# Altium footprint library ECE453Spring16.PcbLib: 11 footprints
Each footprint in its own frame and in the unit in brackets; x right, y up, seen from the top. Pads: shape width x height; smd on the part's side, far side on the other; paste and mask are expansions set on the pad; w line width, h text height; cw(c..) or ccw(c..) is an arc to the next point about the centre after c.
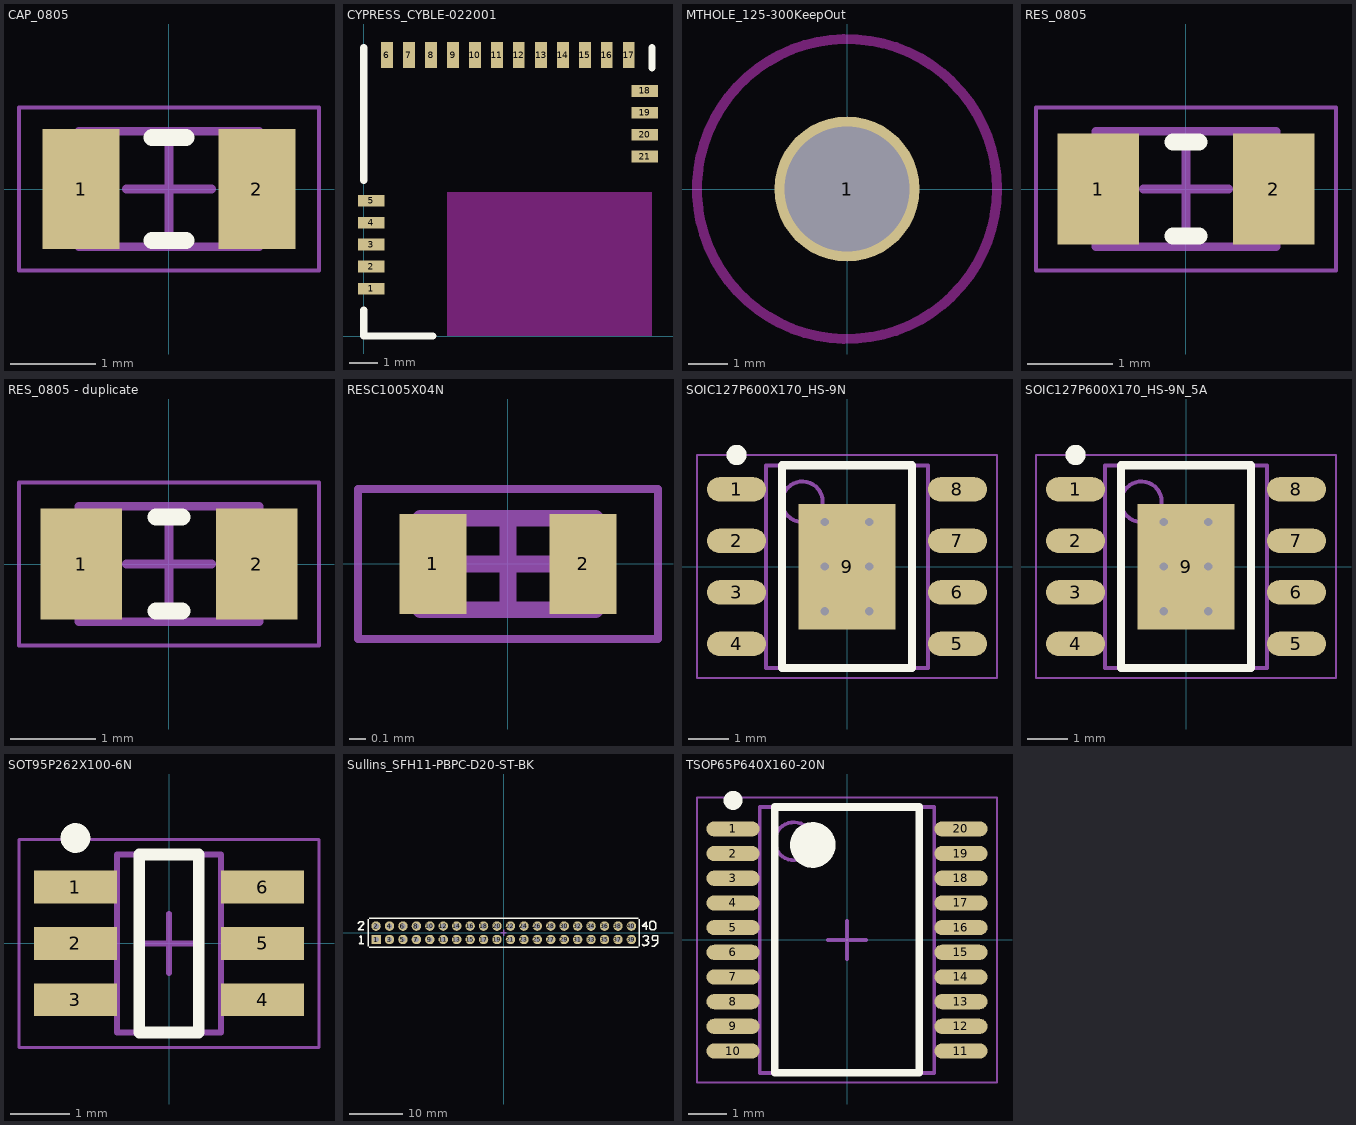
[diagram p0: the footprints below, top view; thin cyan lines are the x and y axes]

## CAP_0805 [mm] "Chip Capacitor, 2-Leads, Body 2.00x1.25mm, IPC Medium Density"
height 1
pads (2):
  rect 0.9x1.4 smd: 1(-1.025,0) 2(1.025,0)
Top Overlay:
  lines w0.2: -0.2,-0.6 0.2,-0.6 ; -0.2,0.6 0.2,0.6
Mechanical 13:
  lines w0.1: -1.05,-0.675 -1.05,0.675 1.05,0.675 1.05,-0.675 -1.05,-0.675
Mechanical 15:
  lines w0.05: -1.75,-0.95 -1.75,0.95 1.75,0.95 1.75,-0.95 -1.75,-0.95
  lines w0.1: -0.5,0 0.5,0 ; 0,-0.5 0,0.5
3D body: height 1, standoff 0, extent -0.7,-0.675 0.7,0.675
3D body: height 1, standoff 0, extent -1.05,-0.675 -0.7,0.675
3D body: height 1, standoff 0, extent 0.7,-0.675 1.05,0.675

## CYPRESS_CYBLE-022001 [mm] "EZ-BLE PRoC Module"
height 1.8
pads (21):
  rect 0.91x0.41 smd mask+0: 1(0.26,1.64) 2(0.26,2.41) 3(0.26,3.17) 4(0.26,3.93) 5(0.26,4.69) 18(9.75,8.5) 19(9.75,7.74) 20(9.75,6.98) 21(9.75,6.22)
  rect 0.41x0.91 smd mask+0: 6(0.81,9.74) 7(1.57,9.74) 8(2.34,9.74) 9(3.1,9.74) 10(3.86,9.74) 11(4.62,9.74) 12(5.38,9.74) 13(6.15,9.74) 14(6.91,9.74) 15(7.67,9.74) 16(8.43,9.74) 17(9.19,9.74)
Top Overlay:
  lines w0.254: 0,0.9 0,0 2.4,0 ; 0,5.4 0,10 ; 10,9.3 10,10
Keep-Out Layer:
  rectangle: 2.89,0 10,4.99

## MTHOLE_125-300KeepOut [mil] "0.125 in Hole w 0.300 Keep Out"
pads (1):
  round 145 / inner round 155 / far side round 145 hole 125: 1(0,0)
Keep-Out Layer:
  circle w10: c0,0 r150

## RES_0805 [mm] "Chip Resistor, 2-Leads, Body 2.00x1.25mm, IPC Medium Density"
height 0.65
pads (2):
  rect 0.95x1.3 smd: 1(-1.025,0) 2(1.025,0)
Top Overlay:
  lines w0.2: -0.15,-0.55 0.15,-0.55 ; -0.15,0.55 0.15,0.55
Mechanical 13:
  lines w0.1: -1.05,-0.675 1.05,-0.675 1.05,0.675 -1.05,0.675 -1.05,-0.675
Mechanical 15:
  lines w0.05: -1.75,-0.95 1.75,-0.95 1.75,0.95 -1.75,0.95 -1.75,-0.95
  lines w0.1: -0.5,0 0.5,0 ; 0,-0.5 0,0.5
3D body: height 0.65, standoff 0, extent 0.75,-0.675 1.05,0.675
3D body: height 0.65, standoff 0, extent -1.05,-0.675 -0.75,0.675
3D body: height 0.65, standoff 0, extent -0.75,-0.675 0.75,0.675

## RES_0805 - duplicate [mm] "Chip Resistor, 2-Leads, Body 2.00x1.25mm, IPC Medium Density"
height 0.65
pads (2):
  rect 0.95x1.3 smd: 1(-1.025,0) 2(1.025,0)
Top Overlay:
  lines w0.2: -0.15,-0.55 0.15,-0.55 ; -0.15,0.55 0.15,0.55
Mechanical 13:
  lines w0.1: -1.05,-0.675 -1.05,0.675 1.05,0.675 1.05,-0.675 -1.05,-0.675
Mechanical 15:
  lines w0.05: -1.75,-0.95 -1.75,0.95 1.75,0.95 1.75,-0.95 -1.75,-0.95
  lines w0.1: -0.5,0 0.5,0 ; 0,-0.5 0,0.5
3D body: height 0.65, standoff 0, extent -0.75,-0.675 0.75,0.675
3D body: height 0.65, standoff 0, extent -1.05,-0.675 -0.75,0.675
3D body: height 0.65, standoff 0, extent 0.75,-0.675 1.05,0.675

## RESC1005X04N [mm] "Chip Resistor, 2-Leads, Body 1.00x0.50mm, IPC Medium Density"
height 0.4
pads (2):
  rect 0.4x0.6 smd: 1(-0.45,0) 2(0.45,0)
Mechanical 13:
  lines w0.1: -0.525,-0.275 0.525,-0.275 0.525,0.275 -0.525,0.275 -0.525,-0.275
Mechanical 15:
  lines w0.05: -0.9,-0.45 0.9,-0.45 0.9,0.45 -0.9,0.45 -0.9,-0.45
  lines w0.1: -0.275,0 0.275,0 ; 0,-0.275 0,0.275
3D body: height 0.4, standoff 0, extent 0.275,-0.275 0.525,0.275
3D body: height 0.4, standoff 0, extent -0.525,-0.275 -0.275,0.275
3D body: height 0.4, standoff 0, extent -0.275,-0.275 0.275,0.275

## SOIC127P600X170_HS-9N [mm] "SOIC, 8-Leads, Body 4.90x3.90mm, Pitch 1.27mm, Thermal Pad 3.10x2.40mm, IPC Medium Density"
height 1.7
pads (9):
  oval 1.45x0.6 smd: 1(-2.725,1.905) 2(-2.725,0.635) 3(-2.725,-0.635) 4(-2.725,-1.905) 5(2.725,-1.905) 6(2.725,-0.635) 7(2.725,0.635) 8(2.725,1.905)
  rect 2.4x3.1 smd: 9(0,0)
via -0.55,1.1 diameter 0.5 hole 0.2
via 0.55,1.1 diameter 0.5 hole 0.2
via -0.55,0 diameter 0.5 hole 0.2
via 0.55,0 diameter 0.5 hole 0.2
via -0.55,-1.1 diameter 0.5 hole 0.2
via 0.55,-1.1 diameter 0.5 hole 0.2
Top Overlay:
  circle w0.25: c-2.725,2.755 r0.125
  lines w0.2: -1.6,-2.5 -1.6,2.5 1.6,2.5 1.6,-2.5 -1.6,-2.5
Mechanical 13:
  circle w0.1: c-1.1,1.6 r0.5
  lines w0.1: -2,-2.5 -2,2.5 2,2.5 2,-2.5 -2,-2.5
Mechanical 15:
  lines w0.05: -3.7,-2.75 -3.7,2.75 3.7,2.75 3.7,-2.75 -3.7,-2.75
  lines w0.1: -0.5,0 0.5,0 ; 0,-0.5 0,0.5
3D body: height 1.7, standoff 0.15, extent -2,-2.5 2,2.5

## SOIC127P600X170_HS-9N_5A [mm] "SOIC, 8-Leads, Body 4.90x3.90mm, Pitch 1.27mm, Thermal Pad 3.10x2.40mm, IPC Medium Density"
height 1.7
pads (9):
  oval 1.45x0.6 smd: 1(-2.725,1.905) 2(-2.725,0.635) 3(-2.725,-0.635) 4(-2.725,-1.905) 5(2.725,-1.905) 6(2.725,-0.635) 7(2.725,0.635) 8(2.725,1.905)
  rect 2.4x3.1 smd: 9(0,0)
via -0.55,1.1 diameter 0.5 hole 0.2
via 0.55,1.1 diameter 0.5 hole 0.2
via -0.55,0 diameter 0.5 hole 0.2
via 0.55,0 diameter 0.5 hole 0.2
via -0.55,-1.1 diameter 0.5 hole 0.2
via 0.55,-1.1 diameter 0.5 hole 0.2
Top Overlay:
  circle w0.25: c-2.725,2.755 r0.125
  lines w0.2: -1.6,-2.5 -1.6,2.5 1.6,2.5 1.6,-2.5 -1.6,-2.5
Mechanical 13:
  circle w0.1: c-1.1,1.6 r0.5
  lines w0.1: -2,-2.5 -2,2.5 2,2.5 2,-2.5 -2,-2.5
Mechanical 15:
  lines w0.05: -3.7,-2.75 -3.7,2.75 3.7,2.75 3.7,-2.75 -3.7,-2.75
  lines w0.1: -0.5,0 0.5,0 ; 0,-0.5 0,0.5
3D body: height 1.7, standoff 0.15, extent -2,-2.5 2,2.5

## SOT95P262X100-6N [mm] "SOT23, 6-Leads, Body 2.95x2.63mm, Pitch 0.95mm, IPC Medium Density"
height 1
pads (6):
  rect 1.4x0.55 smd: 1(-1.575,0.95) 2(-1.575,0) 3(-1.575,-0.95) 4(1.575,-0.95) 5(1.575,0) 6(1.575,0.95)
Top Overlay:
  circle w0.25: c-1.575,1.775 r0.125
  lines w0.2: -0.5,-1.5 0.5,-1.5 0.5,1.5 -0.5,1.5 -0.5,-1.5
Mechanical 13:
  lines w0.1: -0.875,-1.5 -0.875,1.5 0.875,1.5 0.875,-1.5 -0.875,-1.5
Mechanical 15:
  lines w0.05: -2.525,-1.75 -2.525,1.75 2.525,1.75 2.525,-1.75 -2.525,-1.75
  lines w0.1: -0.5,0 0.5,0 ; 0,-0.5 0,0.5
3D body: height 1, standoff 0.01, extent -0.875,-1.5 0.875,1.5

## Sullins_SFH11-PBPC-D20-ST-BK [mil] "CONN HEADER .100\" 40 POS"
height 335
pads (40):
  rect 70x70 hole 40: 1(-950,-50)
  round 70 hole 40: 2(-950,50) 3(-850,-50) 4(-850,50) 5(-750,-50) 6(-750,50) 7(-650,-50) 8(-650,50) 9(-550,-50) 10(-550,50) 11(-450,-50) 12(-450,50) 13(-350,-50) 14(-350,50) 15(-250,-50) 16(-250,50) 17(-150,-50) 18(-150,50) 19(-50,-50) 20(-50,50) 21(50,-50) 22(50,50) 23(150,-50) 24(150,50) 25(250,-50) 26(250,50) 27(350,-50) 28(350,50) 29(450,-50) 30(450,50) 31(550,-50) 32(550,50) 33(650,-50) 34(650,50) 35(750,-50) 36(750,50) 37(850,-50) 38(850,50) 39(950,-50) 40(950,50)
Top Overlay:
  lines w10: -1083.3,69.13 -1083.3,70.33 -1072.45,81.18 -1050.75,81.18 -1039.9,70.33 -1039.9,69.13 -1084.51,24.52 -1043.52,24.52 ; -1071.25,-33.34 -1071.25,-32.13 -1059.19,-20.08 -1059.19,-79.15 -1073.66,-79.15 -1072.45,-80.35 -1042.32,-80.35 ; -1007.87,-100 -1007.87,100 ; -1000,-107.87 1000,-107.87 ; -1000,107.87 1000,107.87 ; 1007.87,-100 1007.87,100 ; 1032.3,-83.97 1043.14,-94.82 1046.76,-94.82 1049.17,-92.41 1066.05,-92.41 1076.9,-81.56 1078.1,-80.35 1078.1,-69.5 1066.05,-57.45 1066.05,-55.04 ; 1037.12,-32.13 1037.12,-30.93 1047.97,-20.08 1064.84,-20.08 1075.69,-30.93 1075.69,-41.78 1075.69,-45.39 1066.05,-55.04 ; 1062.43,22.11 1062.43,82.39 1061.23,83.59 1061.23,78.77 1032.3,49.84 1072.08,49.84 ; 1099.8,-100.84 1120.29,-100.84 1148.02,-73.12 1148.02,-58.65 1148.02,-26.11 1143.2,-21.28 1114.27,-21.28 1103.42,-32.13 1103.42,-46.6 1110.65,-53.83 1137.17,-53.83 ; 1066.05,-55.04 1051.58,-55.04 1066.05,-55.04 ; 1086.54,35.37 1086.54,65.51 1087.75,66.72 1087.75,73.95 1098.6,84.8 1121.5,84.8 1121.5,82.39 1131.14,72.74 1131.14,32.96 1129.94,31.76 1128.73,31.76 1119.09,22.11 1097.39,22.11 1097.39,24.52 1086.54,35.37
Bottom Overlay:
  lines w10: -100,-100 -100,-200 100,-200 100,-100
Mechanical 15:
  lines w10: -22.49,-0.79 19.7,-0.79 ; 1.62,-23.69 1.62,23.32
3D body "Sullins40pinFemale.STEP": height 349.4, standoff -370.68, extent -998.03,-98.42 1000,98.43

## TSOP65P640X160-20N [mm] "TSOP, 20-Leads, Body 6.65x4.40mm, Pitch 0.65mm, IPC Medium Density"
height 1.6
pads (20):
  oval 1.4x0.4 smd: 1(-3,2.925) 2(-3,2.275) 3(-3,1.625) 4(-3,0.975) 5(-3,0.325) 6(-3,-0.325) 7(-3,-0.975) 8(-3,-1.625) 9(-3,-2.275) 10(-3,-2.925) 11(3,-2.925) 12(3,-2.275) 13(3,-1.625) 14(3,-0.975) 15(3,-0.325) 16(3,0.325) 17(3,0.975) 18(3,1.625) 19(3,2.275) 20(3,2.925)
Top Overlay:
  circle w0.6: c-0.9,2.5 r0.3
  circle w0.25: c-3,3.675 r0.125
  lines w0.2: -1.9,-3.5 1.9,-3.5 1.9,3.5 -1.9,3.5 -1.9,-3.5
Mechanical 13:
  circle w0.1: c-1.4,2.6 r0.5
  lines w0.1: -2.3,-3.5 2.3,-3.5 2.3,3.5 -2.3,3.5 -2.3,-3.5
Mechanical 15:
  lines w0.05: -3.95,-3.75 3.95,-3.75 3.95,3.75 -3.95,3.75 -3.95,-3.75
  lines w0.1: -0.5,0 0.5,0 ; 0,-0.5 0,0.5
3D body: height 1.6, standoff 0.05, extent -2.3,-3.5 2.3,3.5